# Altium footprint library VQFN48_RTC.PcbLib: 1 footprints
Each footprint in its own frame and in the unit in brackets; x right, y up, seen from the top. Pads: shape width x height; smd on the part's side, far side on the other; paste and mask are expansions set on the pad; w line width, h text height; cw(c..) or ccw(c..) is an arc to the next point about the centre after c.
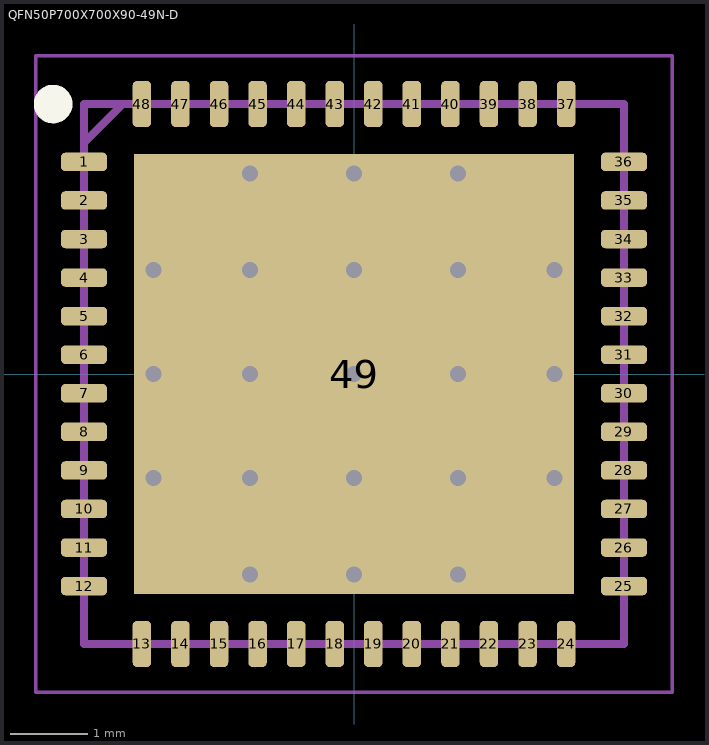
[diagram p0: the footprint, top view; thin cyan lines are the x and y axes]

## QFN50P700X700X90-49N-D [mm]
pads (49):
  rrect50% 0.6x0.24 smd mask+0.05: 1(-3.5,2.75) 2(-3.5,2.25) 3(-3.5,1.75) 4(-3.5,1.25) 5(-3.5,0.75) 6(-3.5,0.25) 7(-3.5,-0.25) 8(-3.5,-0.75) 9(-3.5,-1.25) 10(-3.5,-1.75) 11(-3.5,-2.25) 12(-3.5,-2.75) 25(3.5,-2.75) 26(3.5,-2.25) 27(3.5,-1.75) 28(3.5,-1.25) 29(3.5,-0.75) 30(3.5,-0.25) 31(3.5,0.25) 32(3.5,0.75) 33(3.5,1.25) 34(3.5,1.75) 35(3.5,2.25) 36(3.5,2.75)
  rrect50% 0.24x0.6 smd mask+0.05: 13(-2.75,-3.5) 14(-2.25,-3.5) 15(-1.75,-3.5) 16(-1.25,-3.5) 17(-0.75,-3.5) 18(-0.25,-3.5) 19(0.25,-3.5) 20(0.75,-3.5) 21(1.25,-3.5) 22(1.75,-3.5) 23(2.25,-3.5) 24(2.75,-3.5) 37(2.75,3.5) 38(2.25,3.5) 39(1.75,3.5) 40(1.25,3.5) 41(0.75,3.5) 42(0.25,3.5) 43(-0.25,3.5) 44(-0.75,3.5) 45(-1.25,3.5) 46(-1.75,3.5) 47(-2.25,3.5) 48(-2.75,3.5)
  rect 5.7x5.7 smd paste-2539.97: 49(0,0)
via -1.35,-2.6 diameter 0.5 hole 0.21
via 1.35,-2.6 diameter 0.5 hole 0.21
via 0,-2.6 diameter 0.5 hole 0.21
via 0,2.6 diameter 0.5 hole 0.21
via -1.35,2.6 diameter 0.5 hole 0.21
via 1.35,2.6 diameter 0.5 hole 0.21
via 0,1.35 diameter 0.5 hole 0.21
via -2.6,1.35 diameter 0.5 hole 0.21
via 2.6,1.35 diameter 0.5 hole 0.21
via -1.35,1.35 diameter 0.5 hole 0.21
via 1.35,1.35 diameter 0.5 hole 0.21
via -2.6,-1.35 diameter 0.5 hole 0.21
via 2.6,-1.35 diameter 0.5 hole 0.21
via -1.35,-1.35 diameter 0.5 hole 0.21
via 1.35,-1.35 diameter 0.5 hole 0.21
via 0,-1.35 diameter 0.5 hole 0.21
via -2.6,0 diameter 0.5 hole 0.21
via 2.6,0 diameter 0.5 hole 0.21
via -1.35,0 diameter 0.5 hole 0.21
via 1.35,0 diameter 0.5 hole 0.21
via 0,0 diameter 0.5 hole 0.21
Top Overlay:
  circle w0.25: c-3.9,3.5 r0.125
Top Paste:
  rectangle: 0.1,0.1 1.25,1.25
  rectangle: -1.25,0.1 -0.1,1.25
  rectangle: 1.45,0.1 2.6,1.25
  rectangle: -2.6,0.1 -1.45,1.25
  rectangle: 0.1,-1.25 1.25,-0.1
  rectangle: -1.25,-1.25 -0.1,-0.1
  rectangle: 1.45,-1.25 2.6,-0.1
  rectangle: -2.6,-1.25 -1.45,-0.1
  rectangle: 0.1,-2.6 1.25,-1.45
  rectangle: -1.25,-2.6 -0.1,-1.45
  rectangle: 1.45,-2.6 2.6,-1.45
  rectangle: -2.6,-2.6 -1.45,-1.45
  rectangle: 0.1,1.45 1.25,2.6
  rectangle: -1.25,1.45 -0.1,2.6
  rectangle: 1.45,1.45 2.6,2.6
  rectangle: -2.6,1.45 -1.45,2.6
Mechanical 13:
  lines w0.1: -3.5,3 -3,3.5 ; -3.5,-3.5 -3.5,3.5 3.5,3.5 3.5,-3.5 -3.5,-3.5
Mechanical 15:
  lines w0.05: -4.125,-4.125 -4.125,4.125 4.125,4.125 4.125,-4.125 -4.125,-4.125
3D body "LMX2820RTCR.stp": height 0.9, standoff 0, extent -3.55,-3.55 3.55,3.55